# Altium schematic symbol library 0402ZD106MAT2A.SchLib: 1 symbol
Pins are listed as number, name and electrical type; pins without a type are passive.

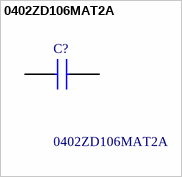
[diagram p0: symbol 0402ZD106MAT2A]

## 0402ZD106MAT2A
designator C?
Multilayer Ceramic Capacitors MLCC - SMD/SMT 10V 10uF X5R 0402 20% Tol; Manufacturer_Name: Kyocera AVX; Geometry.Height: 0.56mm; Manufacturer_Part_Number: 0402ZD106MAT2A; Mouser Part Number: 581-0402ZD106MAT2A; Mouser Price/Stock: https://www.mouser.co.uk/ProductDetail/KYOCERA-AVX/0402ZD106MAT2A?qs=sJ5gq5MLFXpDfmjiItAxIg%3D%3D; Arrow Part Number: 0402ZD106MAT2A; Arrow Price/Stock: https://www.arrow.com/en/products/0402zd106mat2a/avx?utm_currency=USD&region=nac; Datasheet Link: http://www.mouser.com/catalog/supplier/library/pdf/AVXSurfaceMountCeramic.pdf
footprint CAPC1005X56N
pins: 1, 2